# Altium schematic symbol library QUTMS-ElectricalSystem.SchLib: 56 symbols
Pins are listed as number, name and electrical type; pins without a type are passive.

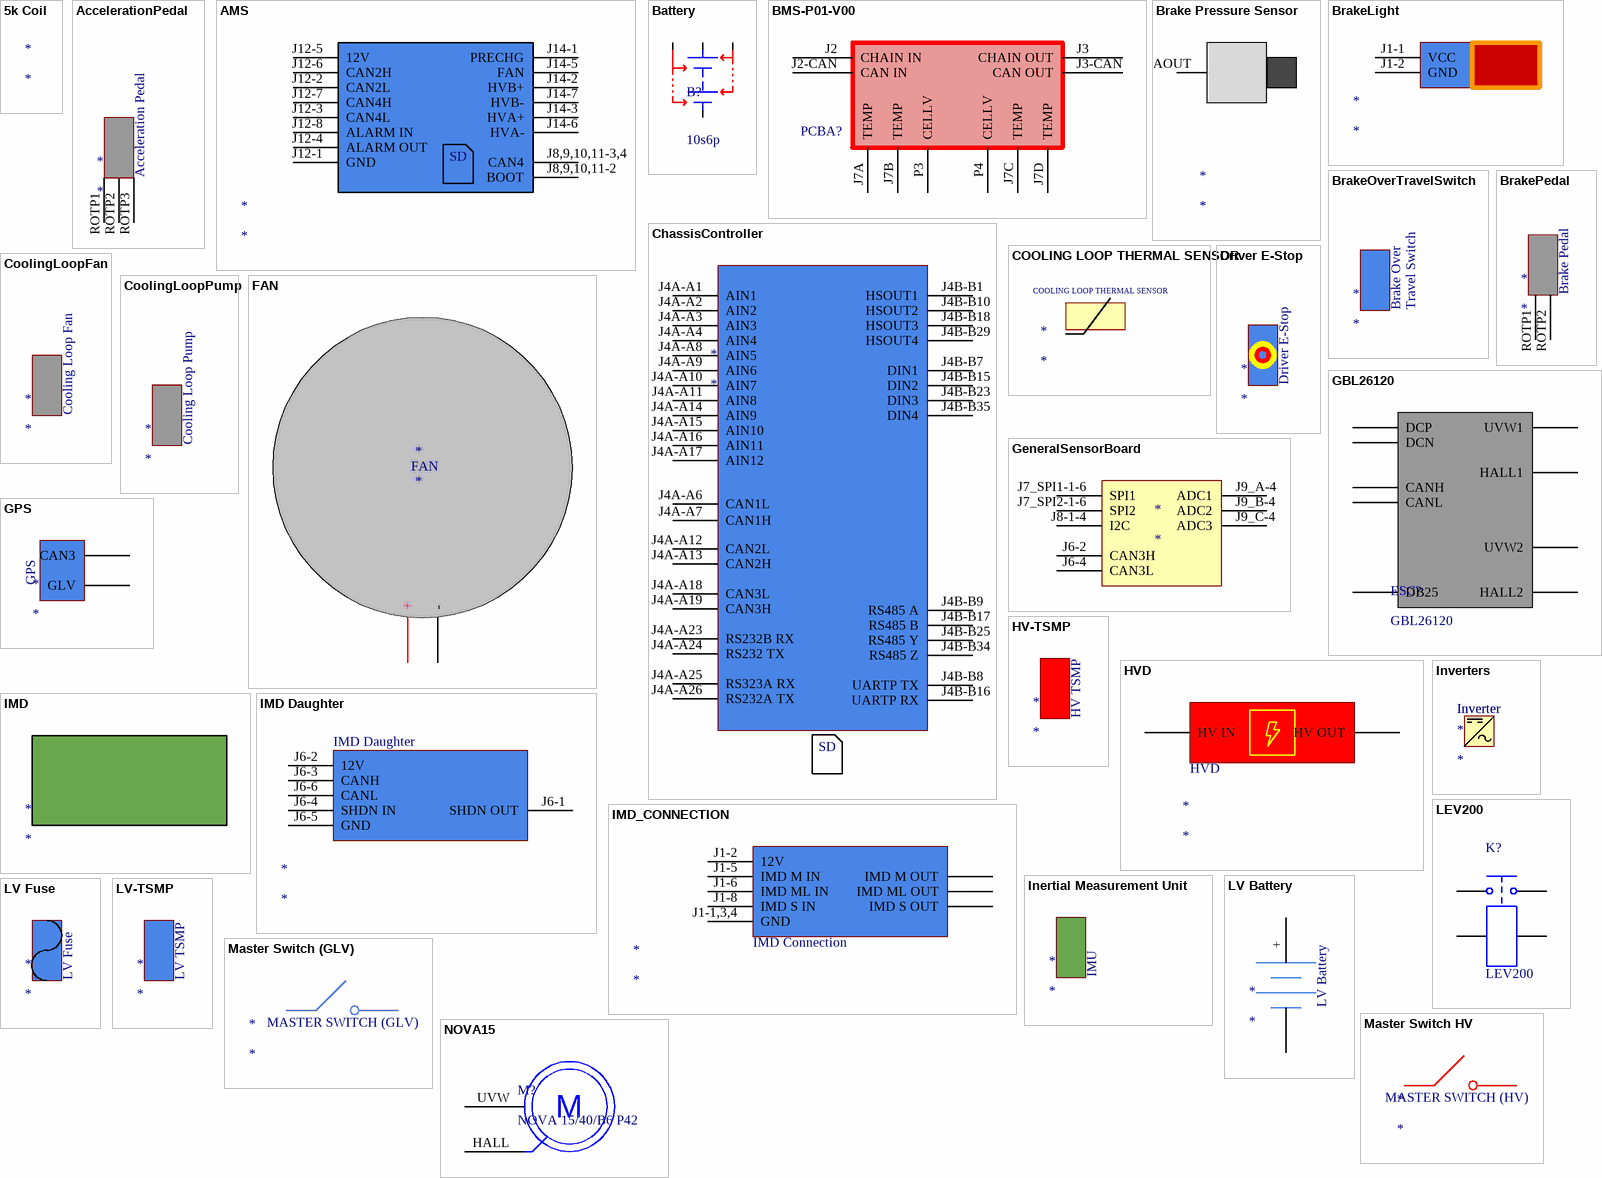
[diagram p0: symbols 5k Coil to NOVA15]

## 5k Coil
designator *

## AccelerationPedal
designator *
pins: ROTP1, ROTP2, ROTP3
text: Acceleration Pedal

## AMS
designator *
pins: J8,9,10,11-2 BOOT, J8,9,10,11-3,4 CAN4, J12-1 GND, J12-2 CAN2L, J12-3 CAN4L, J12-4 ALARM OUT, J12-5 12V, J12-6 CAN2H, J12-7 CAN4H, J12-8 ALARM IN, J14-1 PRECHG, J14-2 HVB+, J14-3 HVA+, J14-5 FAN, J14-6 HVA-, J14-7 HVB-
text: SD

## Battery
designator B?, comment 10s6p
Battery module, 10s6p
pins: 1 +, 1 +, 1 +, 2 -

## BMS-P01-V00
designator PCBA?  (value not drawn)
pins: J2 CHAIN IN, J2-CAN CAN IN, J3 CHAIN OUT, J3-CAN CAN OUT, J7A TEMP, J7B TEMP, J7C TEMP, J7D TEMP, P3 CELLV, P4 CELLV

## Brake Pressure Sensor
designator *
pins: AOUT

## BrakeLight
designator *
pins: J1-1 VCC, J1-2 GND

## BrakeOverTravelSwitch
designator *
text: Brake Over; Travel Switch

## BrakePedal
designator *
pins: ROTP1, ROTP2
text: Brake Pedal

## ChassisController
designator *
pins: J4A-A1 AIN1, J4A-A2 AIN2, J4A-A3 AIN3, J4A-A4 AIN4, J4A-A6 CAN1L, J4A-A7 CAN1H, J4A-A8 AIN5, J4A-A9 AIN6, J4A-A10 AIN7, J4A-A11 AIN8, J4A-A12 CAN2L, J4A-A13 CAN2H, J4A-A14 AIN9, J4A-A15 AIN10, J4A-A16 AIN11, J4A-A17 AIN12, J4A-A18 CAN3L, J4A-A19 CAN3H, J4A-A23 RS232B RX, J4A-A24 RS232 TX, J4A-A25 RS323A RX, J4A-A26 RS232A TX, J4B-B1 HSOUT1, J4B-B7 DIN1, J4B-B8 UARTP TX, J4B-B9 RS485 A, J4B-B10 HSOUT2, J4B-B15 DIN2, J4B-B16 UARTP RX, J4B-B17 RS485 B, J4B-B18 HSOUT3, J4B-B23 DIN3, J4B-B25 RS485 Y, J4B-B29 HSOUT4, J4B-B34 RS485 Z, J4B-B35 DIN4
text: SD

## COOLING LOOP THERMAL SENSOR
designator *

## CoolingLoopFan
designator *
text: Cooling Loop Fan

## CoolingLoopPump
designator *
text: Cooling Loop Pump

## Driver E-Stop
designator *

## FAN
designator *
pins: +, -

## GBL26120
designator ESC?
pins: CANH, CANL, DB25, DCP, DCP DCN, HALL1, HALL2, UVW1, UVW2

## GeneralSensorBoard
designator *
pins: J6-2 CAN3H, J6-4 CAN3L, J7_SPI1-1-6 SPI1, J7_SPI2-1-6 SPI2, J8-1-4 I2C, J9_A-4 ADC1, J9_B-4 ADC2, J9_C-4 ADC3

## GPS
designator *
pins: ?1 CAN3, ?2 GLV

## HV-TSMP
designator *
text: HV TSMP

## HVD
designator *
pins: ?1 HV IN, ?2 HV OUT

## IMD
designator *

## IMD Daughter
designator *
pins: J6-1 SHDN OUT, J6-2 12V, J6-3 CANH, J6-4 SHDN IN, J6-5 GND, J6-6 CANL

## IMD_CONNECTION
designator *
pins: ?1 IMD ML OUT, ?2 IMD S OUT, ?3 IMD M OUT, J1-1,3,4 GND, J1-2 12V, J1-5 IMD M IN, J1-6 IMD ML IN, J1-8 IMD S IN
text: IMD Connection

## Inertial Measurement Unit
designator *
text: IMU

## Inverters
designator *
text: Inverter

## LEV200
designator K?
pins: 1, 2, 4, 5

## LV Battery
designator *
pins: +, ?1

## LV Fuse
designator *

## LV-TSMP
designator *
text: LV TSMP

## Master Switch (GLV)
designator *
text: MASTER SWITCH (GLV)

## Master Switch HV
designator *
text: MASTER SWITCH (HV)

## NOVA15
designator M?, comment NOVA 15/40/B6 P42
pins: HALL, UVW U/V/W
text: M

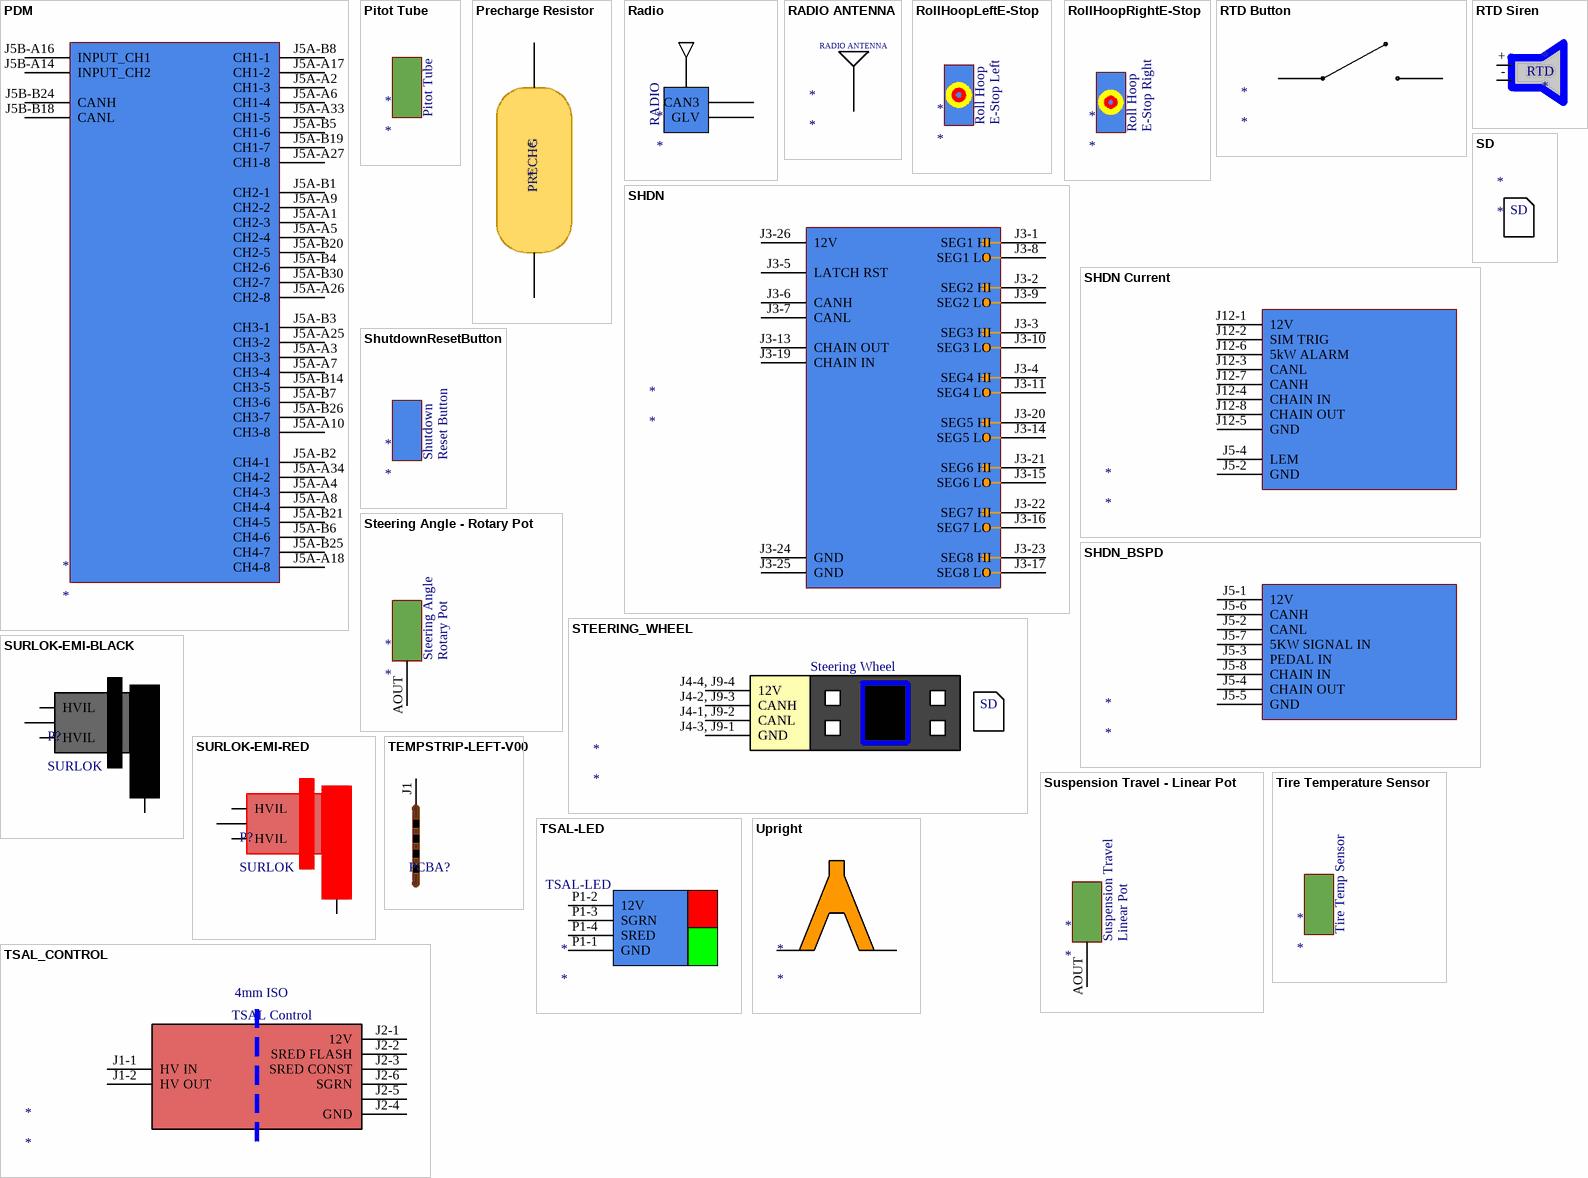
[diagram p1: symbols PDM to Upright]

## PDM
designator *
pins: J5A-A1 CH2-3, J5A-A2 CH1-3, J5A-A3 CH3-3, J5A-A4 CH4-3, J5A-A5 CH2-4, J5A-A6 CH1-4, J5A-A7 CH3-4, J5A-A8 CH4-4, J5A-A9 CH2-2, J5A-A10 CH3-8, J5A-A17 CH1-2, J5A-A18 CH4-8, J5A-A25 CH3-2, J5A-A26 CH2-8, J5A-A27 CH1-8, J5A-A33 CH1-5, J5A-A34 CH4-2, J5A-B1 CH2-1, J5A-B2 CH4-1, J5A-B3 CH3-1, J5A-B4 CH2-6, J5A-B5 CH1-6, J5A-B6 CH4-6, J5A-B7 CH3-6, J5A-B8 CH1-1, J5A-B14 CH3-5, J5A-B19 CH1-7, J5A-B20 CH2-5, J5A-B21 CH4-5, J5A-B25 CH4-7, J5A-B26 CH3-7, J5A-B30 CH2-7, J5B-A14 INPUT_CH2, J5B-A16 INPUT_CH1, J5B-B18 CANL, J5B-B24 CANH

## Pitot Tube
designator *

## Precharge Resistor
designator *
pins: ?1, ?2
text: PRECHG

## Radio
designator *
pins: ?1 CAN3, ?2 GLV
text: RADIO

## RADIO ANTENNA
designator *

## RollHoopLeftE-Stop
designator *
text: Roll Hoop; E-Stop Left

## RollHoopRightE-Stop
designator *
text: Roll Hoop; E-Stop Right

## RTD Button
designator *
pins: ?1, ?2

## RTD Siren
designator *
pins: +, -
text: RTD

## SD
designator *

## SHDN
designator *
pins: J3-1 SEG1 HI, J3-2 SEG2 HI, J3-3 SEG3 HI, J3-4 SEG4 HI, J3-5 LATCH RST, J3-6 CANH, J3-7 CANL, J3-8 SEG1 LO, J3-9 SEG2 LO, J3-10 SEG3 LO, J3-11 SEG4 LO, J3-13 CHAIN OUT, J3-14 SEG5 LO, J3-15 SEG6 LO, J3-16 SEG7 LO, J3-17 SEG8 LO, J3-19 CHAIN IN, J3-20 SEG5 HI, J3-21 SEG6 HI, J3-22 SEG7 HI, J3-23 SEG8 HI, J3-24 GND, J3-25 GND, J3-26 12V

## SHDN Current
designator *
pins: J5-2 GND, J5-4 LEM, J12-1 12V, J12-2 SIM TRIG, J12-3 CANL, J12-4 CHAIN IN, J12-5 GND, J12-6 5kW ALARM, J12-7 CANH, J12-8 CHAIN OUT

## SHDN_BSPD
designator *
pins: J5-1 12V, J5-2 CANL, J5-3 PEDAL IN, J5-4 CHAIN OUT, J5-5 GND, J5-6 CANH, J5-7 5KW SIGNAL IN, J5-8 CHAIN IN

## ShutdownResetButton
designator *
text: Shutdown; Reset Button

## Steering Angle - Rotary Pot
designator *
pins: AOUT
text: Steering Angle; Rotary Pot

## STEERING_WHEEL
designator *
pins: J4-1, J9-2 CANL, J4-2, J9-3 CANH, J4-3, J9-1 GND, J4-4, J9-4 12V
text: Steering Wheel; SD

## SURLOK-EMI-BLACK
designator P?, comment SURLOK
pins: 1, 2, HVIL-1 HVIL, HVIL-2 HVIL

## SURLOK-EMI-RED
designator P?, comment SURLOK
pins: 1, 2, HVIL-1 HVIL, HVIL-2 HVIL

## Suspension Travel - Linear Pot
designator *
pins: AOUT
text: Suspension Travel; Linear Pot

## TEMPSTRIP-LEFT-V00
designator PCBA?  (value not drawn)
pins: J1 TEMP

## Tire Temperature Sensor
designator *
text: Tire Temp Sensor

## TSAL-LED
designator *
pins: P1-1 GND, P1-2 12V, P1-3 SGRN, P1-4 SRED

## TSAL_CONTROL
designator *
pins: J1-1 HV IN, J1-2 HV OUT, J2-1 12V, J2-2 SRED FLASH, J2-3 SRED CONST, J2-4 GND, J2-5, J2-6 SGRN
text: 4mm ISO; TSAL Control

## Upright
designator *
pins: I, O